# Altium schematic symbol library comp.SchLib: 8 symbols
Pins are listed as number, name and electrical type; pins without a type are passive.

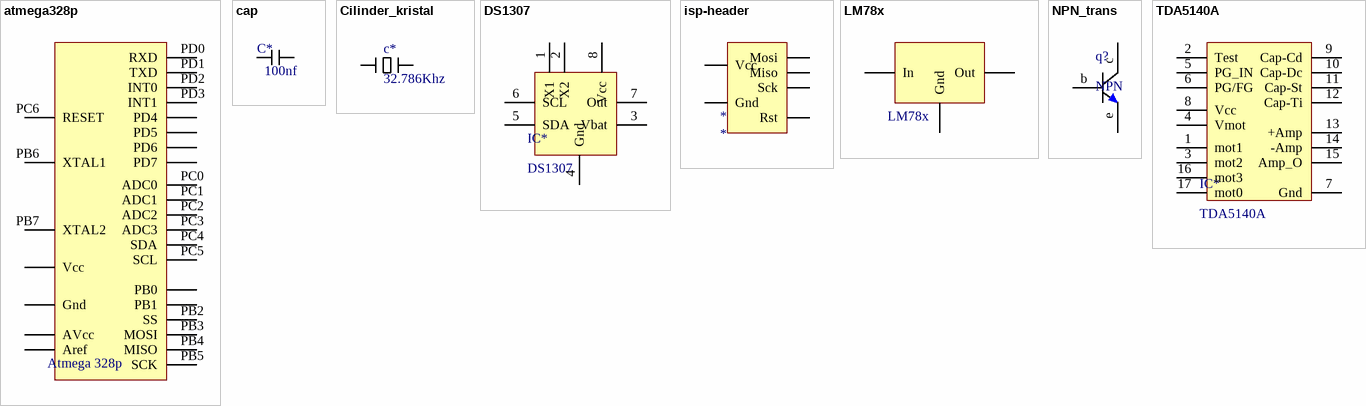
[diagram p0: symbols atmega328p to TDA5140A]

## atmega328p
designator Atmega 328p  (value not drawn)
Atmega 328p avr microcontroller
footprint Pdip28
footprint 32TQFP (Voor atmega328p)
pins: Aref, AVcc, Gnd, PB0, PB1, PB2 SS, PB3 MOSI, PB4 MISO, PB5 SCK, PB6 XTAL1, PB7 XTAL2, PC0 ADC0, PC1 ADC1, PC2 ADC2, PC3 ADC3, PC4 SDA, PC5 SCL, PC6 RESET, PD0 RXD, PD1 TXD, PD2 INT0, PD3 INT1, PD4, PD5, PD6, PD7, Vcc

## cap
designator C*, comment value 100nf  (hidden comment: capacitor)
footprint RESC2012N (Chip Resistor, Body 2.0x1.3mm, IPC Medium Density)
pins: 1 p0, 2 p1

## Cilinder_kristal
designator c*, comment 32.786Khz
footprint DT-38
footprint HC-49S
pins: 1 x1, 2 x2

## DS1307
designator IC*
footprint DIP8
pins: 1 X1, 2 X2, 3 Vbat, 4 Gnd, 5 SDA, 6 SCL, 7 Out, 8 Vcc

## isp-header
designator *
pins: 1 Mosi, 2 Vcc, 3 Gnd, 5 Rst, 7 Sck, 9 Miso

## LM78x
designator IC*
pins: 1 In (power), 2 Gnd, 3 Out

## NPN_trans
designator q?, comment NPN
transistor npn
footprint TO-92 (To-92 package)
pins: b, c, e

## TDA5140A
designator IC*
footprint DIP18
pins: 1 mot1, 2 Test, 3 mot2, 4 Vmot, 5 PG_IN, 6 PG/FG, 7 Gnd, 8 Vcc, 9 Cap-Cd, 10 Cap-Dc, 11 Cap-St, 12 Cap-Ti, 13 +Amp, 14 -Amp, 15 Amp_O, 16 mot3, 17 mot0